# EAGLE library part 7-SEGMENT_SINGLE (library PP_LED)
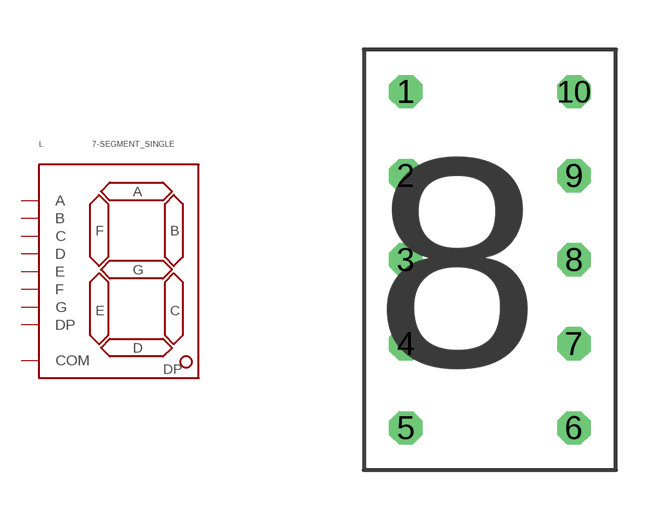
[diagram p0: symbol with the pads of LSHD-A103; footprint LSHD-A103]

Designator prefix L

## 7-SEGMENT_SINGLELSHD-A103  [LSHD-A103]
1  COM
2  F
3  G
4  E
5  D
6  COM
7  DP
8  C
9  B
10  A

## Footprint LSHD-A103 (pad centres in mm)
drill 0.5 octagon: 1 -2.54,5.08; 2 -2.54,2.54; 3 -2.54,0; 4 -2.54,-2.54; 5 -2.54,-5.08; 6 2.54,-5.08; 7 2.54,-2.54; 8 2.54,0; 9 2.54,2.54; 10 2.54,5.08